# Altium footprint library Chips.PcbLib: 2 footprints
Each footprint in its own frame and in the unit in brackets; x right, y up, seen from the top. Pads: shape width x height; smd on the part's side, far side on the other; paste and mask are expansions set on the pad; w line width, h text height; cw(c..) or ccw(c..) is an arc to the next point about the centre after c.
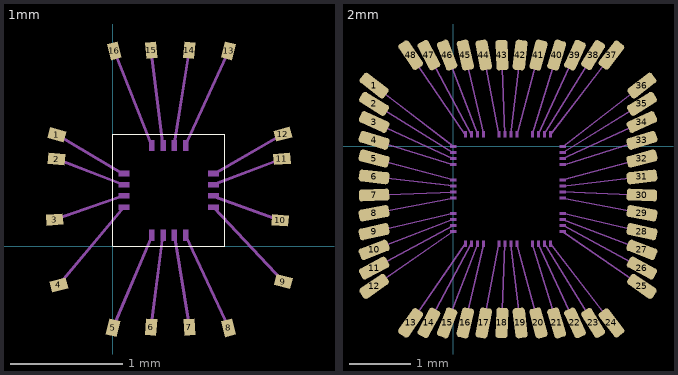
[diagram p0: the footprints below, top view; thin cyan lines are the x and y axes]

## 1mm [mm]
pads (32):
  rect 0.15x0.1 smd rot 164.92 mask-2539.97: 1(-0.496,0.995)
  rect 0.1x0.05 on Mech33 mask+0.102: 1(0.1,0.65) 2(0.1,0.55) 3(0.1,0.45) 4(0.1,0.35) 9(0.9,0.35) 10(0.9,0.45) 11(0.9,0.55) 12(0.9,0.65)
  rect 0.15x0.1 smd rot 174.78 mask-2539.97: 2(-0.5,0.779)
  rect 0.15x0.1 smd rot 4.63 mask-2539.97: 3(-0.517,0.24)
  rect 0.15x0.1 smd rot 14.13 mask-2539.97: 4(-0.48,-0.344)
  rect 0.15x0.1 smd rot 76.12 mask-2539.97: 5(0.003,-0.725)
  rect 0.05x0.1 on Mech33 mask+0.102: 5(0.35,0.1) 6(0.45,0.1) 7(0.55,0.1) 8(0.65,0.1) 13(0.65,0.9) 14(0.55,0.9) 15(0.45,0.9) 16(0.35,0.9)
  rect 0.15x0.1 smd rot 85.75 mask-2539.97: 6(0.342,-0.719)
  rect 0.15x0.1 smd rot 94.23 mask-2539.97: 7(0.685,-0.719)
  rect 0.15x0.1 smd rot 104.34 mask-2539.97: 8(1.034,-0.725)
  rect 0.15x0.1 smd rot 166.23 mask-2539.97: 9(1.521,-0.313)
  rect 0.15x0.1 smd rot 175.83 mask-2539.97: 10(1.493,0.232)
  rect 0.15x0.1 smd rot 4.15 mask-2539.97: 11(1.509,0.781)
  rect 0.15x0.1 smd rot 14.53 mask-2539.97: 12(1.516,1.001)
  rect 0.15x0.1 smd rot 75.7 mask-2539.97: 13(1.034,1.743)
  rect 0.15x0.1 smd rot 84.63 mask-2539.97: 14(0.683,1.749)
  rect 0.15x0.1 smd rot 94.92 mask-2539.97: 15(0.343,1.749)
  rect 0.15x0.1 smd rot 104.3 mask-2539.97: 16(0.014,1.743)
Top Overlay:
  lines w0.01: 0,0 1,0 1,1 0,1 0,0
Top Solder:
  drawing of 16 lines, arcs and shapes, not listed
Top Wire Bonding (Mech35):
  lines w0.025: -0.517,0.24 0.094,0.451 ; -0.5,0.779 0.096,0.55 ; -0.496,0.995 0.096,0.644 ; -0.48,-0.344 0.096,0.349 ; 0.003,-0.725 0.352,0.1 ; 0.014,1.743 0.349,0.896 ; 0.342,-0.719 0.446,0.093 ; 0.343,1.749 0.448,0.89 ; 0.547,0.896 0.683,1.749 ; 0.551,0.098 0.685,-0.719 ; 0.647,0.896 1.034,1.743 ; 0.652,0.095 1.034,-0.725 ; 0.899,0.644 1.516,1.001 ; 0.901,0.347 1.521,-0.313 ; 0.901,0.446 1.493,0.232 ; 0.901,0.552 1.509,0.781
3D body: height 0.05, standoff 0, extent 0,-0.001 1,1.001

## 2mm [mm]
pads (96):
  rrect50% 0.5x0.2 smd rot 142.43: 1(-1.3,1)
  rect 0.1x0.05 on Mech33 mask+0.102: 1(0,0) 2(0,-0.1) 3(0,-0.2) 4(0,-0.3) 5(0,-0.55) 6(0,-0.65) 7(0,-0.75) 8(0,-0.85) 9(0,-1.1) 10(0,-1.2) 11(0,-1.3) 12(0,-1.4) 25(1.8,-1.4) 26(1.8,-1.3) 27(1.8,-1.2) 28(1.8,-1.1) 29(1.8,-0.85) 30(1.8,-0.75) 31(1.8,-0.65) 32(1.8,-0.55) 33(1.8,-0.3) 34(1.8,-0.2) 35(1.8,-0.1) 36(1.8,0)
  rrect50% 0.5x0.2 smd rot 148.27: 2(-1.3,0.7)
  rrect50% 0.5x0.2 smd rot 155.09: 3(-1.3,0.4)
  rrect50% 0.5x0.2 smd rot 162.81: 4(-1.3,0.1)
  rrect50% 0.5x0.2 smd rot 164.93: 5(-1.3,-0.2)
  rrect50% 0.5x0.2 smd rot 173.42: 6(-1.3,-0.5)
  rrect50% 0.5x0.2 smd rot 2.12: 7(-1.3,-0.8)
  rrect50% 0.5x0.2 smd rot 10.71: 8(-1.3,-1.1)
  rrect50% 0.5x0.2 smd rot 12.99: 9(-1.3,-1.4)
  rrect50% 0.5x0.2 smd rot 21.02: 10(-1.3,-1.7)
  rrect50% 0.5x0.2 smd rot 28.16: 11(-1.3,-2)
  rrect50% 0.5x0.2 smd rot 34.76: 12(-1.3,-2.3)
  rrect50% 0.5x0.2 smd rot 55.3: 13(-0.7,-2.9)
  rect 0.05x0.1 on Mech33 mask+0.102: 13(0.2,-1.6) 14(0.3,-1.6) 15(0.4,-1.6) 16(0.5,-1.6) 17(0.75,-1.6) 18(0.85,-1.6) 19(0.95,-1.6) 20(1.05,-1.6) 21(1.3,-1.6) 22(1.4,-1.6) 23(1.5,-1.6) 24(1.6,-1.6) 37(1.6,0.2) 38(1.5,0.2) 39(1.4,0.2) 40(1.3,0.2) 41(1.05,0.2) 42(0.95,0.2) 43(0.85,0.2) 44(0.75,0.2) 45(0.5,0.2) 46(0.4,0.2) 47(0.3,0.2) 48(0.2,0.2)
  rrect50% 0.5x0.2 smd rot 61.8: 14(-0.4,-2.9)
  rrect50% 0.5x0.2 smd rot 68.98: 15(-0.1,-2.9)
  rrect50% 0.5x0.2 smd rot 76.84: 16(0.2,-2.9)
  rrect50% 0.5x0.2 smd rot 79.11: 17(0.5,-2.9)
  rrect50% 0.5x0.2 smd rot 87.95: 18(0.8,-2.9)
  rrect50% 0.5x0.2 smd rot 96.78: 19(1.1,-2.9)
  rrect50% 0.5x0.2 smd rot 105.2: 20(1.4,-2.9)
  rrect50% 0.5x0.2 smd rot 107.1: 21(1.7,-2.9)
  rrect50% 0.5x0.2 smd rot 115.07: 22(2,-2.9)
  rrect50% 0.5x0.2 smd rot 121.65: 23(2.3,-2.9)
  rrect50% 0.5x0.2 smd rot 127.62: 24(2.6,-2.9)
  rrect50% 0.5x0.2 smd rot 145.3: 25(3.1,-2.3)
  rrect50% 0.5x0.2 smd rot 151.55: 26(3.1,-2)
  rrect50% 0.5x0.2 smd rot 159.02: 27(3.1,-1.7)
  rrect50% 0.5x0.2 smd rot 167.01: 28(3.1,-1.4)
  rrect50% 0.5x0.2 smd rot 169.38: 29(3.1,-1.1)
  rrect50% 0.5x0.2 smd rot 177.71: 30(3.1,-0.8)
  rrect50% 0.5x0.2 smd rot 6.73: 31(3.1,-0.5)
  rrect50% 0.5x0.2 smd rot 15.15: 32(3.1,-0.2)
  rrect50% 0.5x0.2 smd rot 17.38: 33(3.1,0.1)
  rrect50% 0.5x0.2 smd rot 24.72: 34(3.1,0.4)
  rrect50% 0.5x0.2 smd rot 31.7: 35(3.1,0.7)
  rrect50% 0.5x0.2 smd rot 37.79: 36(3.1,1)
  rrect50% 0.5x0.2 smd rot 52.43: 37(2.6,1.5)
  rrect50% 0.5x0.2 smd rot 58.24: 38(2.3,1.5)
  rrect50% 0.5x0.2 smd rot 65.21: 39(2,1.5)
  rrect50% 0.5x0.2 smd rot 72.94: 40(1.7,1.5)
  rrect50% 0.5x0.2 smd rot 74.99: 41(1.4,1.5)
  rrect50% 0.5x0.2 smd rot 83.25: 42(1.1,1.5)
  rrect50% 0.5x0.2 smd rot 92.15: 43(0.8,1.5)
  rrect50% 0.5x0.2 smd rot 100.84: 44(0.5,1.5)
  rrect50% 0.5x0.2 smd rot 102.99: 45(0.2,1.5)
  rrect50% 0.5x0.2 smd rot 111.03: 46(-0.1,1.5)
  rrect50% 0.5x0.2 smd rot 118.1: 47(-0.4,1.5)
  rrect50% 0.5x0.2 smd rot 124.48: 48(-0.7,1.5)
Top Solder:
  drawing of 44 lines, arcs and shapes, not listed
Top Wire Bonding (Mech35):
  lines w0.025: -1.3,-2.3 -0.002,-1.399 ; -1.3,-2 -0.002,-1.305 ; -1.3,-1.7 0.001,-1.2 ; -1.3,-1.4 0,-1.1 ; -1.3,-1.1 0.001,-0.854 ; -1.3,-0.8 0.001,-0.752 ; -1.3,-0.5 -0.005,-0.649 ; -1.3,-0.2 0,-0.55 ; -1.3,0.1 -0.004,-0.301 ; -1.3,0.4 -0.001,-0.203 ; -1.3,0.7 -0.001,-0.103 ; -1.3,1 0,0 ; -0.7,-2.9 0.2,-1.6 ; -0.7,1.5 0.199,0.191 ; -0.4,-2.9 0.298,-1.599 ; -0.4,1.5 0.296,0.196 ; -0.1,-2.9 0.399,-1.601 ; -0.1,1.5 0.401,0.196 ; 0.2,-2.9 0.503,-1.604 ; 0.2,1.5 0.5,0.2 ; 0.5,-2.9 0.75,-1.601 ; 0.5,1.5 0.749,0.199 ; 0.8,-2.9 0.847,-1.597 ; 0.8,1.5 0.849,0.199 ; 0.947,-1.611 1.1,-2.9 ; 0.946,0.199 1.1,1.5 ; 1.047,-1.601 1.4,-2.9 ; 1.051,0.199 1.4,1.5 ; 1.299,0.193 1.7,1.5 ; 1.3,-1.6 1.7,-2.9 ; 1.394,-1.604 2,-2.9 ; 1.399,0.199 2,1.5 ; 1.496,0.201 2.3,1.5 ; 1.501,-1.604 2.3,-2.9 ; 1.6,0.2 2.6,1.5 ; 1.601,-1.604 2.6,-2.9 ; 1.795,-0.748 3.1,-0.8 ; 1.795,-0.201 3.1,0.4 ; 1.798,-1.1 3.1,-1.4 ; 1.798,-0.856 3.1,-1.1 ; 1.798,-0.654 3.1,-0.5 ; 1.8,-1.4 3.1,-2.3 ; 1.802,-1.297 3.1,-2 ; 1.803,-0.551 3.1,-0.2 ; 1.803,-0.306 3.1,0.1 ; 1.803,-0.101 3.1,0.7 ; 1.805,-1.204 3.1,-1.7 ; 1.809,-0.001 3.1,1
3D body: height 0.2, standoff 0, extent -0.1,-1.7 1.9,0.303